# EAGLE library part PRO_MINI (library Arduino_Pro_Mini)
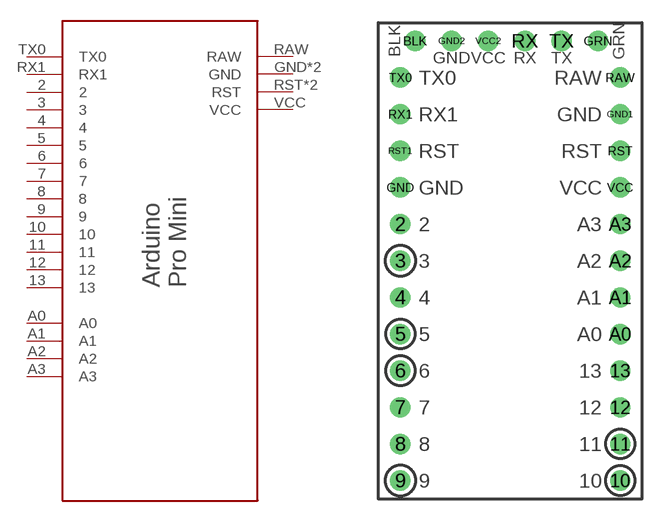
[diagram p0: symbol with the pads of PRO_MINI; footprint PRO_MINI]

Designator prefix -

## PRO_MINI  [PRO_MINI]
2  2
3  3
4  4
5  5
6  6
7  7
8  8
9  9
10  10
11  11
12  12
13  13
A0  A0
A1  A1
A2  A2
A3  A3
GND  GND
GND1  GND
RAW  RAW
RST  RST
RST1  RST
RX1  RX1
TX0  TX0
VCC  VCC

## PRO_MINIPRO_MINI_2  [PRO_MINI]
2  2
3  3
4  4
5  5
6  6
7  7
8  8
9  9
10  10
11  11
12  12
13  13
A0  A0
A1  A1
A2  A2
A3  A3
GND  GND
GND1  GND
GND2  GND
RAW  RAW
RST  RST
RST1  RST
RX  RX1
RX1  RX1
TX  TX0
TX0  TX0
VCC  VCC
VCC2  VCC

## Footprint PRO_MINI (pad centres in mm)
drill 0.9: 2 1.524,19.05; 3 1.524,16.51; 4 1.524,13.97; 5 1.524,11.43; 6 1.524,8.89; 7 1.524,6.35; 8 1.524,3.81; 9 1.524,1.27; 10 16.764,1.27; 11 16.764,3.81; 12 16.764,6.35; 13 16.764,8.89; A0 16.764,11.43; A1 16.764,13.97; A2 16.764,16.51; A3 16.764,19.05; GND 1.524,21.59; GND1 16.764,26.67; RAW 16.764,29.21; RST 16.764,24.13; RST1 1.524,24.13; RX1 1.524,26.67; TX0 1.524,29.21; VCC 16.764,21.59
drill 0.9 pad 1.422: BLK 2.54,31.75; GND2 5.08,31.75; GRN 15.24,31.75; RX 10.16,31.75; TX 12.7,31.75; VCC2 7.62,31.75